# Altium schematic symbol library clock_led.SchLib: 46 symbols
Pins are listed as number, name and electrical type; pins without a type are passive.

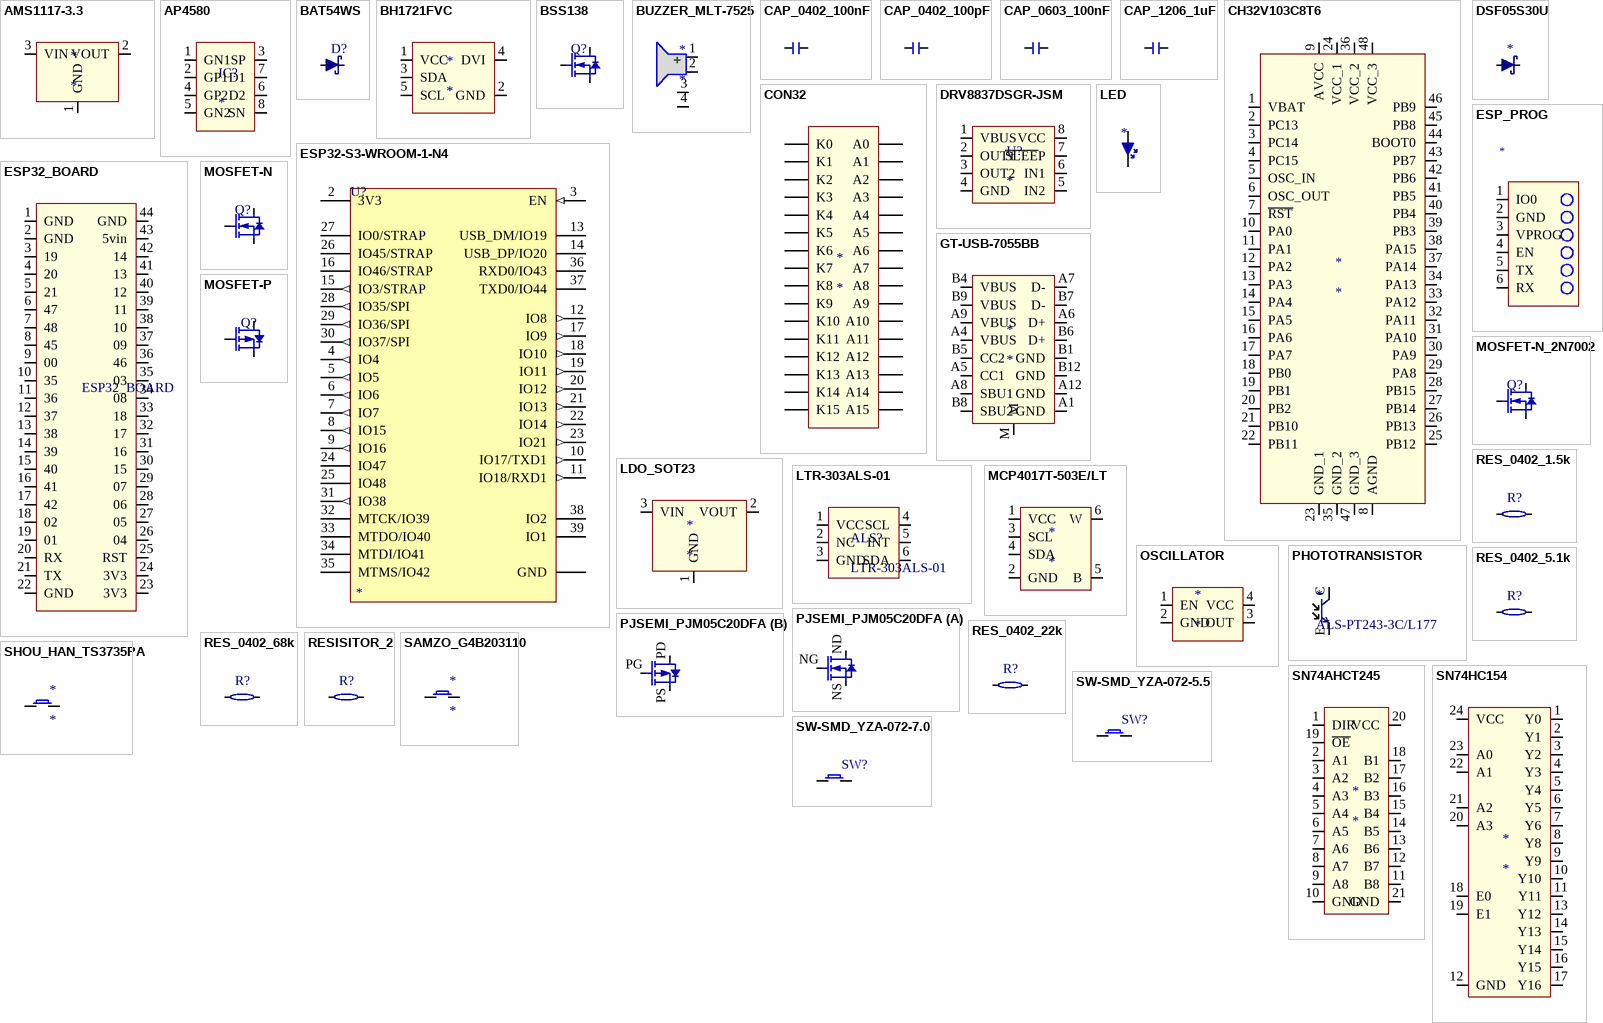
[diagram p0: symbols AMS1117-3.3 to SW-SMD_YZA-072-7.0]

## AMS1117-3.3
designator *
3.3V LDO; JLCPCB: C18906017
footprint SOT223_LDO (SOT223, 4-Leads, Body 6.50x7.00mm (avg), Pitch 2.30mm, IPC Medium Density)
pins: 1 GND, 2 VOUT, 3 VIN

## AP4580
designator IC?
footprint SOT23-8 (Dual mosfet AP4580)
pins: 1 GN1, 2 GP1, 3 SP, 4 GP2, 5 GN2, 6 D2, 7 D1, 8 SN

## BAT54WS
designator D?  (value not drawn)
Schottky Diode 20v 500mA; JLCPCB: C27636123
footprint SODFL250X100-2L (SODFL, 2-Leads, Body 1.25x2.50mm, IPC High Density)
pins: A, K

## BH1721FVC
designator *
footprint BH1721FVC
pins: 1 VCC, 2 GND, 3 SDA, 4 DVI, 5 SCL

## BSS138
designator Q?  (value not drawn)
P channel mosfet 1.2A; JLCPCB: C3015220
footprint SOT95P230X110-3L (SOT23, 3-Leads, Body 2.90x2.30mm, Pitch 0.95mm, IPC High Density)
footprint DFN65P100X50-3L (DFN, 3-Leads, Body 0.60x1.00mm, Pitch 0.65mm, IPC High Density)
pins: D, G, S

## BUZZER_MLT-7525
designator *
JLCPCB: C95299
footprint MLT-7525 (Buzzer)
footprint BUZZER_XHXDZ_SMD8530
pins: 1 VCC, 2 GND, 3 DNC, 4 DNC

## CAP_0402_100nF
designator C?, comment 100nF  (value not drawn)
Ceramic capacitor 0402; Value: 100nF; JLCPCB: ????
footprint CAP_0402 (Chip Capacitor, 2-Leads, Body 1.00x0.50mm, IPC Medium Density)
footprint CAPC_1206_3216X16L (Chip Capacitor 1206)
footprint CAPC_0603_1608X08L (Chip Capacitor 0603)
pins: 1, 2

## CAP_0402_100pF
designator C?, comment 100pF  (value not drawn)
Ceramic capacitor 0402; Value: 100pF; JLCPCB: C1546
footprint CAP_0402 (Chip Capacitor, 2-Leads, Body 1.00x0.50mm, IPC Medium Density)
footprint CAPC_1206_3216X16L (Chip Capacitor 1206)
footprint CAPC_0603_1608X08L (Chip Capacitor 0603)
pins: 1, 2

## CAP_0603_100nF
designator C?, comment 100nF  (value not drawn)
Ceramic capacitor 0603; Value: 100nF; JLCPCB: C7501158
footprint CAP_0402 (Chip Capacitor, 2-Leads, Body 1.00x0.50mm, IPC Medium Density)
footprint CAPC_1206_3216X16L (Chip Capacitor 1206)
footprint CAPC_0603_1608X08L (Chip Capacitor 0603)
pins: 1, 2

## CAP_1206_1uF
designator C?, comment 1uF  (value not drawn)
Ceramic capacitor 1206; Value: 1uF; JLCPCB: C5448921
footprint CAP_0402 (Chip Capacitor, 2-Leads, Body 1.00x0.50mm, IPC Medium Density)
footprint CAPC_1206_3216X16L (Chip Capacitor 1206)
footprint CAPC_0603_1608X08L (Chip Capacitor 0603)
pins: 1, 2

## CH32V103C8T6
designator *
footprint QFP48 (TSQFP, 48-Leads, Body 7.00x7.00mm, Pitch 0.50mm, IPC Medium Density)
pins: 1 VBAT, 2 PC13, 3 PC14, 4 PC15, 5 OSC_IN, 6 OSC_OUT, 7 ~{RST}, 8 AGND, 9 AVCC, 10 PA0, 11 PA1, 12 PA2, 13 PA3, 14 PA4, 15 PA5, 16 PA6, 17 PA7, 18 PB0, 19 PB1, 20 PB2, 21 PB10, 22 PB11, 23 GND_1, 24 VCC_1, 25 PB12, 26 PB13, 27 PB14, 28 PB15, 29 PA8, 30 PA9, 31 PA10, 32 PA11, 33 PA12, 34 PA13, 35 GND_2, 36 VCC_2, 37 PA14, 38 PA15, 39 PB3, 40 PB4, 41 PB5, 42 PB6, 43 PB7, 44 BOOT0, 45 PB8, 46 PB9, 47 GND_3, 48 VCC_3

## CON32
designator *  (no BOM)
footprint CON32
pins: A0, A1, A2, A3, A4, A5, A6, A7, A8, A9, A10, A11, A12, A13, A14, A15, K0, K1, K2, K3, K4, K5, K6, K7, K8, K9, K10, K11, K12, K13, K14, K15

## DRV8837DSGR-JSM
designator U?
JLCPCB: C22447132
footprint DFN-8-2x2-TP
pins: 1 VBUS, 2 OUT1 (out), 3 OUT2 (out), 4 GND, 5 IN2 (in), 6 IN1 (in), 7 ~{SLEE}P, 8 VCC

## DSF05S30U
designator *  (value not drawn)
Schottky Diode 20v 500mA; Alternate: CUS551V30
footprint SODFL250X100-2L (SODFL, 2-Leads, Body 1.25x2.50mm, IPC High Density)
pins: 1 C, 2 A

## ESP32-S3-WROOM-1-N4
designator U?
ESP32 Module, 4MB Flash, No PSRAM; JLCPCB: C2913197
footprint XCVR_ESP32-S3-WROOM-1-N16R2
pins: 2 3V3 (power), 3 EN (in), 4 IO4 (out), 5 IO5 (out), 6 IO6 (out), 7 IO7 (out), 8 IO15 (out), 9 IO16 (out), 10 IO17/TXD1 (out), 11 IO18/RXD1 (out), 12 IO8 (out), 13 USB_DM/IO19, 14 USB_DP/IO20, 15 IO3/STRAP (out), 16 IO46/STRAP, 17 IO9 (out), 18 IO10 (out), 19 IO11 (out), 20 IO12 (out), 21 IO13 (out), 22 IO14 (out), 23 IO21 (out), 24 IO47, 25 IO48, 26 IO45/STRAP, 27 IO0/STRAP, 28 IO35/SPI (out), 29 IO36/SPI (out), 30 IO37/SPI (out), 31 IO38 (out), 32 MTCK/IO39, 33 MTDO/IO40, 34 MTDI/IO41, 35 MTMS/IO42, 36 RXD0/IO43, 37 TXD0/IO44, 38 IO2, 39 IO1, GND (power)

## ESP32_BOARD
designator ESP32_BOARD  (value not drawn)
footprint ESP32_BOARD
pins: 1 GND, 2 GND, 3 19, 4 20, 5 21, 6 47, 7 48, 8 45, 9 00, 10 35, 11 36, 12 37, 13 38, 14 39, 15 40, 16 41, 17 42, 18 02, 19 01, 20 RX, 21 TX, 22 GND, 23 3V3, 24 3V3, 25 RST, 26 04, 27 05, 28 06, 29 07, 30 15, 31 16, 32 17, 33 18, 34 08, 35 03, 36 46, 37 09, 38 10, 39 11, 40 12, 41 13, 42 14, 43 5vin, 44 GND

## ESP_PROG
designator *  (value not drawn)  (no BOM)
footprint ESP_PROG
pins: 1 IO0, 2 GND, 3 VPROG, 4 EN (out), 5 TX, 6 RX

## GT-USB-7055BB
designator *
USB Connector, vertical; JLCPCB: C7450621
footprint USB-C-TH_GT-USB-7055BB (USB  C vertical connector)
pins: A1 GND, A4 VBUS, A5 CC1, A6 D+, A7 D-, A8 SBU1, A9 VBUS, A12 GND, B1 GND, B4 VBUS, B5 CC2, B6 D+, B7 D-, B8 SBU2, B9 VBUS, B12 GND, M

## LDO_SOT23
designator *
footprint SOT23-3 (SOT23, 3-Leads, Body 2.92x2.80mm, Pitch 0.95mm, IPC Medium Density)
pins: 1 GND, 2 VOUT, 3 VIN

## LED
designator *  (value not drawn)
Red 0402 SMD LED; JLCPCB: C25503345
footprint LED_0201
footprint LED_0402
pins: 1 C, 2 A

## LTR-303ALS-01
designator ALS?
Ambient light sensor, I2C; JLCPCB: C364577
footprint LTR-303ALS-01 (Ambient light sensor)
pins: 1 VCC, 2 NC, 3 GND, 4 SCL, 5 INT, 6 SDA

## MCP4017T-503E/LT
designator *
footprint SC70-6 (Teensy little SOT23 type thing)
pins: 1 VCC, 2 GND, 3 SCL, 4 SDA, 5 B, 6 W

## MOSFET-N
designator Q?  (value not drawn)
P channel mosfet 1.2A
footprint SOT95P230X110-3L (SOT23, 3-Leads, Body 2.90x2.30mm, Pitch 0.95mm, IPC High Density)
footprint DFN65P100X50-3L (DFN, 3-Leads, Body 0.60x1.00mm, Pitch 0.65mm, IPC High Density)
pins: D, G, S

## MOSFET-N_2N7002
designator Q?  (value not drawn)
P channel mosfet 1.2A; JLCPCB: C22446827
footprint SOT95P230X110-3L (SOT23, 3-Leads, Body 2.90x2.30mm, Pitch 0.95mm, IPC High Density)
footprint DFN65P100X50-3L (DFN, 3-Leads, Body 0.60x1.00mm, Pitch 0.65mm, IPC High Density)
pins: D, G, S

## MOSFET-P
designator Q?  (value not drawn)
P channel mosfet 1.2A
footprint SOT95P230X110-3L (SOT23, 3-Leads, Body 2.90x2.30mm, Pitch 0.95mm, IPC High Density)
pins: 1 G, 2 S, 3 D

## OSCILLATOR
designator *
footprint EPSON TSX-3225 (Crystal, 4-Leads, Body 2.50x3.20mm, Pitch 2.20mm, IPC Medium Density)
pins: 1 EN, 2 GND, 3 OUT, 4 VCC

## PHOTOTRANSISTOR
designator *, comment ALS-PT243-3C/L177
footprint ALS-PT243-3C (ALS-PT243-3C/L177)
pins: C, E

## PJSEMI_PJM05C20DFA
designator *  (value not drawn)
Dual N/P Mofset; JLCPCB: C22470331
footprint SOT563 (SOTFL, 6-Leads, Body 1.55x1.58mm, Pitch 0.50mm, IPC High Density)
footprint SOT23-6 (SOT23, 6-Leads, Body 2.92x2.80mm, Pitch 0.95mm, IPC Medium Density)
footprint DFN-6 (PSON, 6-Leads, Body 2.00x2.00mm, Pitch 0.65mm, IPC Medium Density)
part A pins: ND, NG, NS
part B pins: PD, PG, PS

## RES_0402_1.5k
designator R?, comment 1.5k  (value not drawn)
Chip Resistor; Value: 1.5k; JLCPCB: C2933074
footprint RES 0402_1005 RF (Chip Resistor, 2-Leads, Body 1.0x0.5mm, IPC High Density)
footprint RES_0603_1608X08L (Chip Resistor 0603)
footprint RES_0201
pins: 1, 2

## RES_0402_5.1k
designator R?, comment 5.1k  (value not drawn)
Chip Resistor; JLCPCB: C2906948; Value: 5.1k
footprint RES 0402_1005 RF (Chip Resistor, 2-Leads, Body 1.0x0.5mm, IPC High Density)
footprint RES_0603_1608X08L (Chip Resistor 0603)
footprint RES_0201
pins: 1, 2

## RES_0402_22k
designator R?, comment 22k  (value not drawn)
Chip Resistor; Value: 22k; JLCPCB: C2906913
footprint RES 0402_1005 RF (Chip Resistor, 2-Leads, Body 1.0x0.5mm, IPC High Density)
footprint RES_0603_1608X08L (Chip Resistor 0603)
footprint RES_0201
pins: 1, 2

## RES_0402_68k
designator R?, comment 68k  (value not drawn)
Chip Resistor; Value: 68k; JLCPCB: C2906913
footprint RES 0402_1005 RF (Chip Resistor, 2-Leads, Body 1.0x0.5mm, IPC High Density)
footprint RES_0603_1608X08L (Chip Resistor 0603)
footprint RES_0201
pins: 1, 2

## RESISITOR_2
designator R?  (value not drawn)
Chip Resistor
footprint RES 0402_1005 RF (Chip Resistor, 2-Leads, Body 1.0x0.5mm, IPC High Density)
footprint RES_0603_1608X08L (Chip Resistor 0603)
footprint RES_0201
pins: 1, 2

## SAMZO_G4B203110
designator *
5.2x5.2x1.2mm Tactile Switch; JLCPCB: C29780806
footprint G-Switch GT-TC024B-H0060-L1 (Tactile Switch 3x2mm)
footprint TACTILE_SWITCH (SAMZO G4B203110)
pins: 1 A, 2 B

## SHOU_HAN_TS3735PA
designator *
5.2x5.2x1.2mm Tactile Switch; JLCPCB: C2681471; Parameter 1: *
footprint G-Switch GT-TC024B-H0060-L1 (Tactile Switch 3x2mm)
footprint TACTILE_SWITCH (SAMZO G4B203110)
footprint TS3735PA Tactile Switch (Tactile Switch)
pins: 1 A, 2 B

## SN74AHCT245
designator *
footprint VQFN20 (PQFN, 20-Leads, Body 3.50x4.50mm, Pitch 1.50mm/0.50mm, Thermal Pad 2.05x3.05mm, IPC High Density)
pins: 1 DIR, 2 A1, 3 A2, 4 A3, 5 A4, 6 A5, 7 A6, 8 A7, 9 A8, 10 GND, 11 B8, 12 B7, 13 B6, 14 B5, 15 B4, 16 B3, 17 B2, 18 B1, 19 ~{OE}, 20 VCC, 21 GND

## SN74HC154
designator *
footprint SOP24 (SOP, 24-Leads, Body 15.37x7.50mm, Pitch 1.27mm, IPC Medium Density)
pins: 1 Y0, 2 Y1, 3 Y2, 4 Y3, 5 Y4, 6 Y5, 7 Y6, 8 Y8, 9 Y9, 10 Y10, 11 Y11, 12 GND, 13 Y12, 14 Y13, 15 Y14, 16 Y15, 17 Y16, 18 E0, 19 E1, 20 A3, 21 A2, 22 A1, 23 A0, 24 VCC

## SW-SMD_YZA-072-5.5
designator SW?  (value not drawn)
5.2x5.2x1.2mm Tactile Switch; JLCPCB: C722967
footprint G-Switch GT-TC024B-H0060-L1 (Tactile Switch 3x2mm)
footprint TACTILE_SWITCH (SAMZO G4B203110)
footprint FSM-SWITCH
pins: 1 A, 2 B

## SW-SMD_YZA-072-7.0
designator SW?  (value not drawn)
5.2x5.2x1.2mm Tactile Switch; JLCPCB: C722968
footprint G-Switch GT-TC024B-H0060-L1 (Tactile Switch 3x2mm)
footprint TACTILE_SWITCH (SAMZO G4B203110)
footprint FSM-SWITCH
pins: 1 A, 2 B

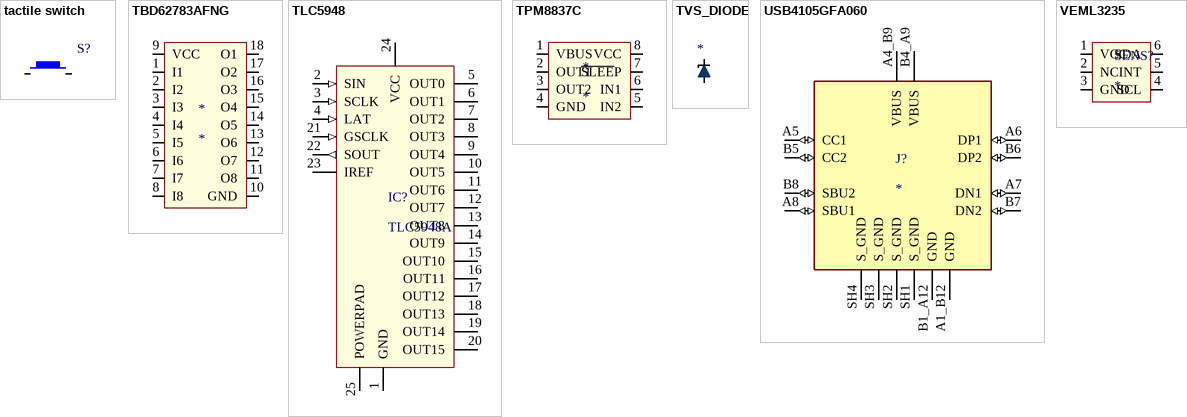
[diagram p1: symbols tactile switch to VEML3235]

## tactile switch
designator S?, comment 4-1437565-1  (value not drawn)
6x6mm SMD tactile switch,SPST-NO; Manufacturer_Name: TE Connectivity; Allied_Number: R1117787; RS Part Number: 1616046; Manufacturer_Part_Number: 4-1437565-1; Datasheet Link: http://uk.rs-online.com/web/p/products/1616046
footprint FSM-SWITCH
footprint TAC_SW (C22375382)
pins: 1, 2

## TBD62783AFNG
designator *
footprint SSOP-18 (TSOP, 18-Leads, Body 6.80x4.40mm, Pitch 0.65mm, IPC High Density)
pins: 1 I1, 2 I2, 3 I3, 4 I4, 5 I5, 6 I6, 7 I7, 8 I8, 9 VCC, 10 GND, 11 O8, 12 O7, 13 O6, 14 O5, 15 O4, 16 O3, 17 O2, 18 O1

## TLC5948
designator IC?, comment TLC5948A
16 Channel CC Led Driver; JLCPCB: C5456461
footprint TSSOP24 (TSOP, 24-Leads, Body 7.80x4.40mm, Pitch 0.65mm, Thermal Pad 3.42x2.44mm, IPC Medium Density)
footprint TSSOP24 - 0.635 (TSOP, 24-Leads, Body 7.80x4.40mm, Pitch 0.65mm, Thermal Pad 3.42x2.44mm, IPC Medium Density); pin to pad 21>20 25>1
pins: 1 GND (power), 2 SIN (in), 3 SCLK (in), 4 LAT (in), 5 OUT0, 6 OUT1, 7 OUT2, 8 OUT3, 9 OUT4, 10 OUT5, 11 OUT6, 12 OUT7, 13 OUT8, 14 OUT9, 15 OUT10, 16 OUT11, 17 OUT12, 18 OUT13, 19 OUT14, 20 OUT15, 21 GSCLK (in), 22 SOUT (out), 23 IREF (oc), 24 VCC (power), 25 POWERPAD (power)

## TPM8837C
designator *
JLCPCB: C38422646
footprint DFNWB2x2
pins: 1 VBUS, 2 OUT1 (out), 3 OUT2 (out), 4 GND, 5 IN2 (in), 6 IN1 (in), 7 ~{SLEE}P, 8 VCC

## TVS_DIODE
designator *  (value not drawn)
TVS Diode
footprint TVS_DIODE (SODFL 98x40 2 pin)
footprint UDFN2 (DFN, 2-Leads, Body 0.60x1.00mm, Pitch 0.65mm, IPC Medium Density)
footprint SOD323 1.6x1.25 (SODFL, 2-Leads, Body 1.20x2.30mm, IPC Medium Density)
pins: A, K

## USB4105GFA060
designator J?
USB-C (USB TYPE-C) USB 2.0 Receptacle Connector 24 (16+8 Dummy) Position Surface Mount, Right Angle; Through Hole; MF: Global Connector Technology; MP: USB4105GFA060; SnapEDA_Link: https://www.snapeda.com/parts/USB4105GFA060/Global+Connector+Technology/view-part/?ref=snap; Package: None; Value: *; Check_prices: https://www.snapeda.com/parts/USB4105GFA060/Global+Connector+Technology/view-part/?ref=eda
footprint GCT_USB4105GFA060
pins: A1_B12 GND (power), A4_B9 VBUS (power), A5 CC1 (io), A6 DP1 (io), A7 DN1 (io), A8 SBU1 (io), B1_A12 GND (power), B4_A9 VBUS (power), B5 CC2 (io), B6 DP2 (io), B7 DN2 (io), B8 SBU2 (io), SH1 S_GND (power), SH2 S_GND (power), SH3 S_GND (power), SH4 S_GND (power)

## VEML3235
designator SENS?
footprint LTR-303ALS-01 (Ambient light sensor)
pins: 1 VCC, 2 NC, 3 GND, 4 SCL, 5 INT, 6 SDA